# Altium footprint library 600VDCDC.PcbLib: 39 footprints (part 3 of 3)
Each footprint in its own frame and in the unit in brackets; x right, y up, seen from the top. Pads: shape width x height; smd on the part's side, far side on the other; paste and mask are expansions set on the pad; w line width, h text height; cw(c..) or ccw(c..) is an arc to the next point about the centre after c.
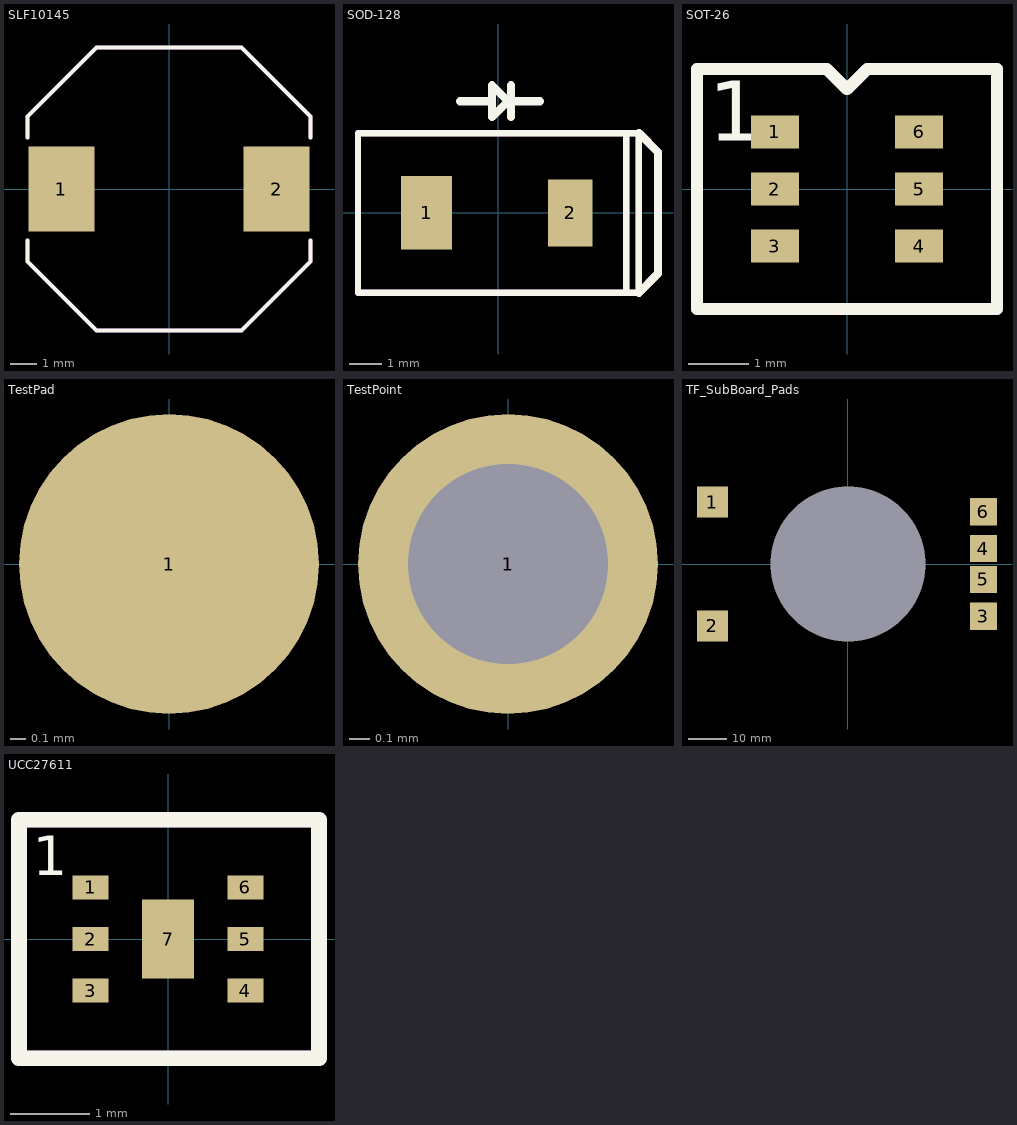
[diagram p2: the footprints below, top view; thin cyan lines are the x and y axes]

## SLF10145 [mm]
pads (2):
  rect 2.5x3.2 smd paste+0 mask+0: 1(-4.05,0) 2(4.05,0)
Top Overlay:
  lines w0.152: -5.327,-1.932 -5.327,-2.727 -2.727,-5.327 2.727,-5.327 5.327,-2.727 5.327,-1.932 ; -5.327,1.932 -5.327,2.727 -2.727,5.327 2.727,5.327 5.327,2.727 5.327,1.932
Mechanical 29:
  lines w0.152: -5.327,-1.932 -5.327,-2.727 -2.727,-5.327 2.727,-5.327 5.327,-2.727 5.327,-1.932 ; -5.327,1.932 -5.327,2.727 -2.727,5.327 2.727,5.327 5.327,2.727 5.327,1.932
  text ".Designator" at -0.1,5 h1

## SOD-128 [mm]
pads (2):
  rect 1.6x2.3 smd: 1(-2.25,0)
  rect 1.4x2.1 smd: 2(2.25,0)
Top Overlay:
  lines w0.2: 4,-2.5 4,2.5 ; -4.4,-2.5 4.4,-2.5 4.4,2.5 -4.4,2.5 -4.4,0 -4.4,-2.5
  lines w0.254: -1.2,3.5 -0.2,3.5 ; 0.4,3 0.4,4 ; 1.3,3.5 0.3,3.5 ; 4.4,-2.5 5,-1.9 5,1.9 4.4,2.5 ; 0.3,3.5 -0.2,3 -0.2,4 0.3,3.5
Mechanical 29:
  lines w0.2: 4,-2.5 4,2.5 ; -4.4,-2.5 -4.4,0 -4.4,2.5 4.4,2.5 4.4,-2.5 -4.4,-2.5
  lines w0.254: 4.4,-2.5 5,-1.9 5,1.9 4.4,2.5
  text ".Designator" at -3.8,-1.5 h1
3D body "User Library-CMS06.step": height 0.99, standoff 0.01, extent -2.35,-1.2 2.35,1.2

## SOT-26 [mm]
pads (6):
  rect 0.8x0.55 smd: 1(-1.2,0.95) 2(-1.2,0) 3(-1.2,-0.95) 4(1.2,-0.95) 5(1.2,0) 6(1.2,0.95)
Top Overlay:
  lines w0.2: -2.5,-2 -2.5,2 -0.337,2 0,1.663 0.337,2 2.5,2 2.5,-2 -2.5,-2
  text "1" at -2.3,0.8 h1
Mechanical 29:
  lines w0.2: -2.5,-2 -2.5,2 -0.337,2 0,1.663 0.337,2 2.5,2 2.5,-2 -2.5,-2
  text "1" at -2.3,0.8 h1
  text ".Designator" at -2.2,-1.4 h1
3D body "User Library-SOT23-6-2.step": height 1.45, standoff 0, extent -1.4,-1.45 1.4,1.45

## TestPad [mm]
pads (1):
  round 2 smd: 1(0,0)

## TestPoint [mm]
pads (1):
  round 1.5 hole 1: 1(0,0)
3D body "keystone-PN5000.STEP": height 4.58, standoff -3.04, extent -1.27,-1.27 1.27,1.27

## TF_SubBoard_Pads [mm]
pads (7):
  rect 8x8 smd: 1(-35,16) 2(-35,-16)
  rect 7x7 smd: 3(35,-13.5) 4(35,4) 5(35,-4) 6(35,13.5)
  round 1.524 hole 40 square unplated: ""(0,0)
3D body "PlanarTransformer2.step": height 8.98, standoff -0.52, extent -40,-32 40,32

## UCC27611 [mm]
pads (7):
  rect 0.45x0.3 smd: 1(-0.975,0.65) 2(-0.975,0) 3(-0.975,-0.65) 4(0.975,-0.65) 5(0.975,0) 6(0.975,0.65)
  rect 0.65x1 smd paste-0.15: 7(0,0)
Top Overlay:
  lines w0.2: -1.875,-1.5 -1.875,1.5 1.9,1.5 1.9,-1.5 -1.875,-1.5
  text "1" at -1.7,0.8 h0.5
Mechanical 29:
  lines w0.2: -1.875,-1.5 -1.875,1.5 1.9,1.5 1.9,-1.5 -1.875,-1.5
  text "1" at -1.7,0.8 h0.5
  text ".Designator" at -1.6,-1.1 h0.6
3D body "DRV6_1X1P6.stp": height 0.83, standoff 0.01, extent -1.054,-1.054 1.054,1.054